# Altium footprint library CRYSTAL_Test.PcbLib: 8 footprints
Each footprint in its own frame and in the unit in brackets; x right, y up, seen from the top. Pads: shape width x height; smd on the part's side, far side on the other; paste and mask are expansions set on the pad; w line width, h text height; cw(c..) or ccw(c..) is an arc to the next point about the centre after c.
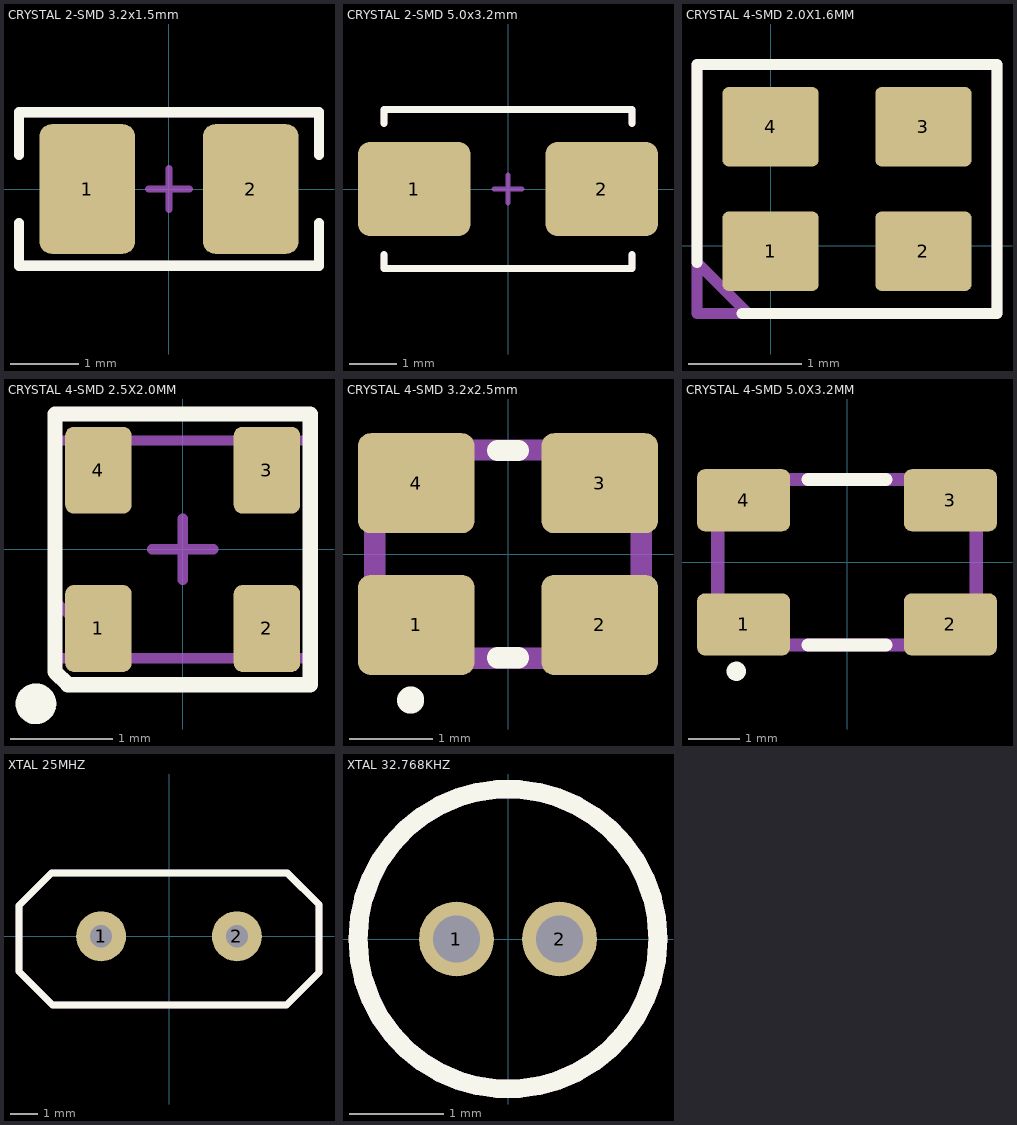
[diagram p0: the footprints below, top view; thin cyan lines are the x and y axes]

## CRYSTAL 2-SMD 3.2x1.5mm [mm]
pads (2):
  rrect25% 1.4x1.9 smd: 1(-1.2,0) 2(1.2,0)
Top Overlay:
  lines w0.15: -2.2,-0.5 -2.2,-1.125 2.2,-1.125 2.2,-0.5 ; -2.2,0.5 -2.2,1.125 2.2,1.125 2.2,0.5
Mechanical 15:
  lines w0.1: -0.3,0 0.3,0 ; 0,-0.3 0,0.3
Mechanical 29:
  lines w0.15: -2.2,-0.5 -2.2,-1.125 2.2,-1.125 2.2,-0.5 ; -2.2,0.5 -2.2,1.125 2.2,1.125 2.2,0.5
  text "'.Designator'" at -1.84,-0.172 h0.76
3D body "Abracon ABS07.STEP": height 0.9, standoff 0, extent -1.625,-0.775 1.625,0.775

## CRYSTAL 2-SMD 5.0x3.2mm [mm]
height 1.3
pads (2):
  rrect25% 2.4x2 smd: 1(-2,0) 2(2,0)
Top Overlay:
  lines w0.15: -2.65,-1.4 -2.65,-1.7 2.65,-1.7 2.65,-1.4 ; -2.65,1.4 -2.65,1.7 2.65,1.7 2.65,1.4
Mechanical 15:
  lines w0.1: -0.3,0 0.3,0 ; 0,-0.3 0,0.3
Mechanical 29:
  lines w0.15: -2.65,-1.4 -2.65,-1.7 2.65,-1.7 2.65,-1.4 ; -2.65,1.4 -2.65,1.7 2.65,1.7 2.65,1.4
  text "'.Designator'" at -2.457,-0.23 h1.02
3D body "NDK NX5032GA.STEP": height 1.2, standoff 0, extent -2.5,-1.6 2.5,1.6

## CRYSTAL 4-SMD 2.0X1.6MM [mm]
pads (4):
  rrect15% 0.85x0.7 smd: 1(0,-0.05) 2(1.35,-0.05) 3(1.35,1.05) 4(0,1.05)
Top Overlay:
  lines w0.1: -0.65,-0.15 -0.65,1.6 2,1.6 2,-0.6 -0.25,-0.6
Mechanical 29:
  lines w0.1: -0.65,-0.15 -0.65,-0.6 -0.2,-0.6 ; -0.65,-0.15 -0.2,-0.6 ; -0.65,-0.15 -0.65,1.6 2,1.6 2,-0.6 -0.2,-0.6 ; -0.2,-0.6 -0.2,-0.6
  text "'.Designator'" at -0.55,0.3 h0.5
3D body "NX2016SA-24M-EXS00A-CS08891.stp": height 0.6, standoff 0, extent -0.375,-0.325 1.675,1.325

## CRYSTAL 4-SMD 2.5X2.0MM [mm]
pads (4):
  rrect25% 0.65x0.85 smd: 1(-0.825,-0.775) 2(0.825,-0.775) 3(0.825,0.775) 4(-0.825,0.775)
Top Overlay:
  circle w0.2: c-1.438,-1.513 r0.1
  lines w0.15: -1.25,-1.2 -1.125,-1.325 1.25,-1.325 1.25,1.325 -1.25,1.325 -1.25,-1.2
Mechanical 15:
  lines w0.1: -0.3,0 0.3,0 ; 0,-0.3 0,0.3
Mechanical 29:
  lines w0.1: -1.27,-0.483 -1.27,-1.067 -0.686,-1.067 ; -1.27,-0.483 -0.686,-1.067 ; -1.27,-0.483 -1.27,1.067 1.27,1.067 1.27,-1.067 -0.686,-1.067
  text "'.Designator'" at -1.229,-0.115 h0.51
3D body: height 0.85, standoff 0, extent -1.25,-1.05 1.25,1.05

## CRYSTAL 4-SMD 3.2x2.5mm [mm]
pads (4):
  rrect25% 1.4x1.2 smd: 1(-1.1,-0.85) 2(1.1,-0.85) 3(1.1,0.85) 4(-1.1,0.85)
Top Overlay:
  circle w0.254: c-1.168,-1.753 r0.036
  lines w0.254: -0.127,-1.245 0.127,-1.245 ; -0.127,1.245 0.127,1.245
Mechanical 29:
  lines w0.254: -1.6,-1.25 1.6,-1.25 1.6,1.25 -1.6,1.25 -1.6,-1.25
  text "'.Designator'" at -1.229,-0.115 h0.51
3D body "ABM8G.STEP": height 1, standoff 0.01, extent -1.6,-1.245 1.6,1.244

## CRYSTAL 4-SMD 5.0X3.2MM [mm]
pads (4):
  rrect25% 1.8x1.2 smd: 1(-2,-1.2) 2(2,-1.2) 3(2,1.2) 4(-2,1.2)
Top Overlay:
  circle w0.254: c-2.141,-2.106 r0.059
  lines w0.254: -0.75,-1.6 0.75,-1.6 ; -0.75,1.6 0.75,1.6
Mechanical 13:
  lines w0.254: -2.5,-1.6 -2.5,1.6 2.5,1.6 2.5,-1.6 -2.5,-1.6
Mechanical 29:
  lines w0.254: -2.5,-1.6 -2.5,1.6 2.5,1.6 2.5,-1.6 -2.5,-1.6
  text "'.Designator'" at -1.84,-0.172 h0.76
3D body "ABM8G.STEP": height 1, standoff 0.01, extent -1.65,-1.245 1.55,1.244

## XTAL 25MHZ [mm]
height 4
pads (2):
  round 1.8 hole 0.8: 1(-2.445,0) 2(2.445,0)
Top Overlay:
  lines w0.254: -5.397,-1.27 -4.191,-2.476 4.223,-2.476 5.397,-1.302 5.397,1.143 4.255,2.286 -4.223,2.286 -5.397,1.111 -5.397,-1.27
Mechanical 29:
  lines w0.254: -5.397,-1.27 -4.191,-2.476 4.223,-2.476 5.397,-1.302 5.397,1.143 4.255,2.286 -4.223,2.286 -5.397,1.111 -5.397,-1.27
  text "'.Designator'" at -3.531,-0.474 h1.02
3D body "User Library-HC-49.step": height 3.51, standoff -2.99, extent -5.4,-2.25 5.4,2.25

## XTAL 32.768KHZ [mm]
pads (2):
  round 0.8 hole 0.5: 1(-0.55,0) 2(0.55,0)
Top Overlay:
  circle w0.2: c0,0 r1.6
Mechanical 29:
  circle w0.2: c0,0 r1.6
  text "'.Designator'" at -1.245,-0.186 h0.51
3D body "AB38T.STEP": height 8.81, standoff -8.49, extent -1.6,-1.603 1.6,1.603